# Altium footprint library Jump_254.PcbLib: 184 footprints (part 11 of 12)
Each footprint in its own frame and in the unit in brackets; x right, y up, seen from the top. Pads: shape width x height; smd on the part's side, far side on the other; paste and mask are expansions set on the pad; w line width, h text height; cw(c..) or ccw(c..) is an arc to the next point about the centre after c.
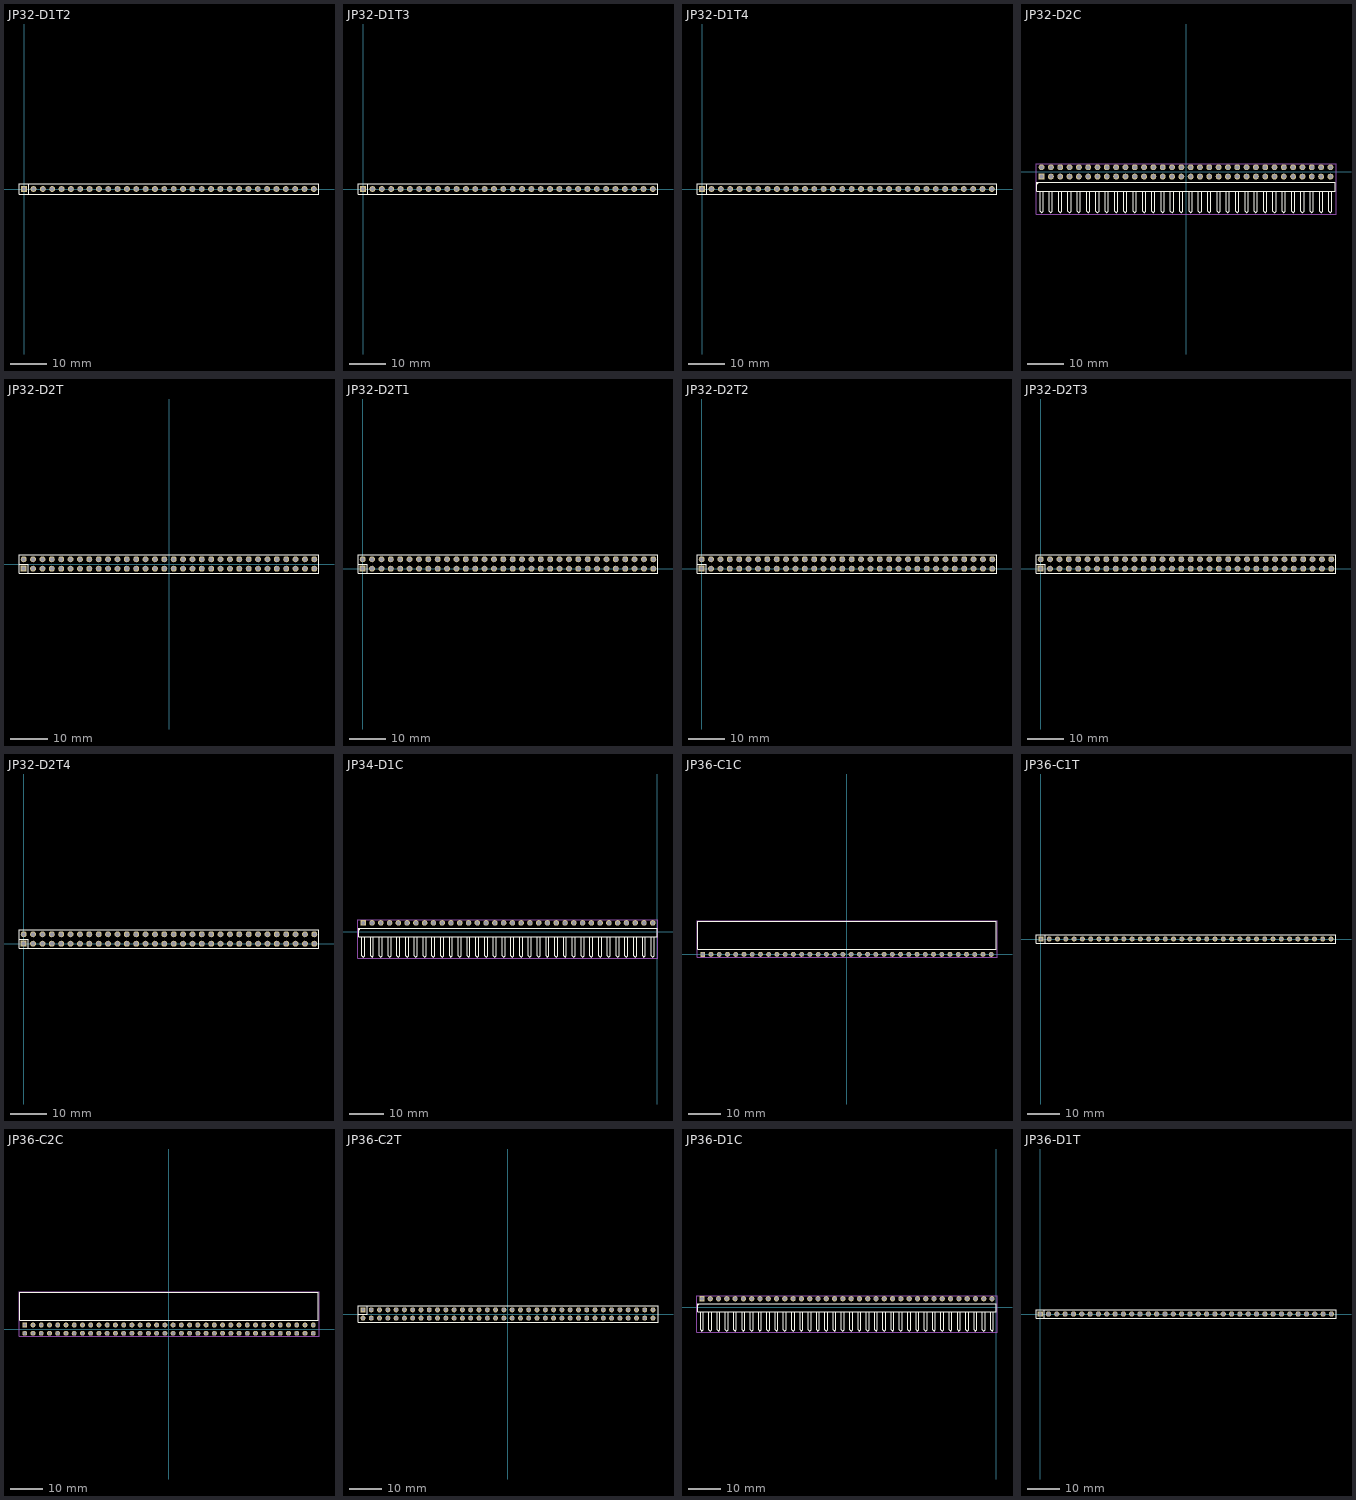
[diagram p10: the footprints below, top view; thin cyan lines are the x and y axes]

## JP32-D1T2 [mm] "32 pins, 1 row, gold plating"
height 21.24
pads (32):
  rect 1.6x1.6 hole 1.1: 1(0,0)
  round 1.6 hole 1.1: 2(2.54,0) 3(5.08,0) 4(7.62,0) 5(10.16,0) 6(12.7,0) 7(15.24,0) 8(17.78,0) 9(20.32,0) 10(22.86,0) 11(25.4,0) 12(27.94,0) 13(30.48,0) 14(33.02,0) 15(35.56,0) 16(38.1,0) 17(40.64,0) 18(43.18,0) 19(45.72,0) 20(48.26,0) 21(50.8,0) 22(53.34,0) 23(55.88,0) 24(58.42,0) 25(60.96,0) 26(63.5,0) 27(66.04,0) 28(68.58,0) 29(71.12,0) 30(73.66,0) 31(76.2,0) 32(78.74,0)
Top Overlay:
  lines w0.2: 1.27,-1.4 1.27,1.4 ; -1.4,-1.4 80.14,-1.4 80.14,1.4 -1.4,1.4 -1.4,-1.4
3D body "61303218421.stp": height 21.23, standoff -3.01, extent -1.27,-1.27 80.01,1.27

## JP32-D1T3 [mm] "32 pins, 1 row, gold plating"
height 33.48
pads (32):
  rect 1.6x1.6 hole 1.1: 1(0,0)
  round 1.6 hole 1.1: 2(2.54,0) 3(5.08,0) 4(7.62,0) 5(10.16,0) 6(12.7,0) 7(15.24,0) 8(17.78,0) 9(20.32,0) 10(22.86,0) 11(25.4,0) 12(27.94,0) 13(30.48,0) 14(33.02,0) 15(35.56,0) 16(38.1,0) 17(40.64,0) 18(43.18,0) 19(45.72,0) 20(48.26,0) 21(50.8,0) 22(53.34,0) 23(55.88,0) 24(58.42,0) 25(60.96,0) 26(63.5,0) 27(66.04,0) 28(68.58,0) 29(71.12,0) 30(73.66,0) 31(76.2,0) 32(78.74,0)
Top Overlay:
  lines w0.2: 1.27,-1.4 1.27,1.4 ; -1.4,-1.4 80.14,-1.4 80.14,1.4 -1.4,1.4 -1.4,-1.4
3D body "61303211321.stp": height 33.48, standoff -3, extent -1.27,-1.27 80.01,1.27

## JP32-D1T4 [mm] "32 pins, 1 row, gold plating"
height 36.48
pads (32):
  rect 1.6x1.6 hole 1.1: 1(0,0)
  round 1.6 hole 1.1: 2(2.54,0) 3(5.08,0) 4(7.62,0) 5(10.16,0) 6(12.7,0) 7(15.24,0) 8(17.78,0) 9(20.32,0) 10(22.86,0) 11(25.4,0) 12(27.94,0) 13(30.48,0) 14(33.02,0) 15(35.56,0) 16(38.1,0) 17(40.64,0) 18(43.18,0) 19(45.72,0) 20(48.26,0) 21(50.8,0) 22(53.34,0) 23(55.88,0) 24(58.42,0) 25(60.96,0) 26(63.5,0) 27(66.04,0) 28(68.58,0) 29(71.12,0) 30(73.66,0) 31(76.2,0) 32(78.74,0)
Top Overlay:
  lines w0.2: 1.27,-1.4 1.27,1.4 ; -1.4,-1.4 80.14,-1.4 80.14,1.4 -1.4,1.4 -1.4,-1.4
3D body "61303218521.stp": height 36.54, standoff -2.94, extent -1.27,-1.27 80.01,1.27

## JP32-D2C [mm] "64 pins, dual row, right angled, gold plating"
height 5.08
pads (64):
  rect 1.6x1.6 hole 1.1: 1(-39.37,-1.27)
  round 1.6 hole 1.1: 2(-36.83,-1.27) 3(-34.29,-1.27) 4(-31.75,-1.27) 5(-29.21,-1.27) 6(-26.67,-1.27) 7(-24.13,-1.27) 8(-21.59,-1.27) 9(-19.05,-1.27) 10(-16.51,-1.27) 11(-13.97,-1.27) 12(-11.43,-1.27) 13(-8.89,-1.27) 14(-6.35,-1.27) 15(-3.81,-1.27) 16(-1.27,-1.27) 17(1.27,-1.27) 18(3.81,-1.27) 19(6.35,-1.27) 20(8.89,-1.27) 21(11.43,-1.27) 22(13.97,-1.27) 23(16.51,-1.27) 24(19.05,-1.27) 25(21.59,-1.27) 26(24.13,-1.27) 27(26.67,-1.27) 28(29.21,-1.27) 29(31.75,-1.27) 30(34.29,-1.27) 31(36.83,-1.27) 32(39.37,-1.27) 33(39.37,1.27) 34(36.83,1.27) 35(34.29,1.27) 36(31.75,1.27) 37(29.21,1.27) 38(26.67,1.27) 39(24.13,1.27) 40(21.59,1.27) 41(19.05,1.27) 42(16.51,1.27) 43(13.97,1.27) 44(11.43,1.27) 45(8.89,1.27) 46(6.35,1.27) 47(3.81,1.27) 48(1.27,1.27) 49(-1.27,1.27) 50(-3.81,1.27) 51(-6.35,1.27) 52(-8.89,1.27) 53(-11.43,1.27) 54(-13.97,1.27) 55(-16.51,1.27) 56(-19.05,1.27) 57(-21.59,1.27) 58(-24.13,1.27) 59(-26.67,1.27) 60(-29.21,1.27) 61(-31.75,1.27) 62(-34.29,1.27) 63(-36.83,1.27) 64(-39.37,1.27)
Top Overlay:
  lines w0.2: -40.598,-3.236 -40.174,-2.812 ; -39.793,-5.335 -39.793,-10.729 -39.37,-11.152 -38.947,-10.729 -38.947,-5.31 ; -37.253,-5.335 -37.253,-10.729 -36.83,-11.152 -36.407,-10.729 -36.407,-5.335 ; -34.713,-5.335 -34.713,-10.729 -34.29,-11.152 -33.867,-10.729 -33.867,-5.31 ; -32.173,-5.335 -32.173,-10.729 -31.75,-11.152 -31.327,-10.729 -31.327,-5.335 ; -29.633,-5.335 -29.633,-10.729 -29.21,-11.152 -28.787,-10.729 -28.787,-5.31 ; -27.093,-5.335 -27.093,-10.729 -26.67,-11.152 -26.247,-10.729 -26.247,-5.335 ; -24.553,-5.335 -24.553,-10.729 -24.13,-11.152 -23.707,-10.729 -23.707,-5.31 ; -22.013,-5.335 -22.013,-10.729 -21.59,-11.152 -21.167,-10.729 -21.167,-5.335 ; -19.473,-5.335 -19.473,-10.729 -19.05,-11.152 -18.627,-10.729 -18.627,-5.31 ; -16.933,-5.335 -16.933,-10.729 -16.51,-11.152 -16.087,-10.729 -16.087,-5.335 ; -14.393,-5.335 -14.393,-10.729 -13.97,-11.152 -13.547,-10.729 -13.547,-5.31 ; -11.853,-5.335 -11.853,-10.729 -11.43,-11.152 -11.007,-10.729 -11.007,-5.335 ; -9.313,-5.335 -9.313,-10.729 -8.89,-11.152 -8.467,-10.729 -8.467,-5.31 ; -6.773,-5.335 -6.773,-10.729 -6.35,-11.152 -5.927,-10.729 -5.927,-5.335 ; -4.233,-5.335 -4.233,-10.729 -3.81,-11.152 -3.387,-10.729 -3.387,-5.31 ; -1.693,-5.335 -1.693,-10.729 -1.27,-11.152 -0.847,-10.729 -0.847,-5.335 ; 0.847,-5.335 0.847,-10.729 1.27,-11.152 1.693,-10.729 1.693,-5.31 ; 3.387,-5.335 3.387,-10.729 3.81,-11.152 4.233,-10.729 4.233,-5.335 ; 5.927,-5.335 5.927,-10.729 6.35,-11.152 6.773,-10.729 6.773,-5.31 ; 8.467,-5.335 8.467,-10.729 8.89,-11.152 9.313,-10.729 9.313,-5.335 ; 11.007,-5.335 11.007,-10.729 11.43,-11.152 11.853,-10.729 11.853,-5.31 ; 13.547,-5.335 13.547,-10.729 13.97,-11.152 14.393,-10.729 14.393,-5.335 ; 16.087,-5.335 16.087,-10.729 16.51,-11.152 16.933,-10.729 16.933,-5.31 ; 18.627,-5.335 18.627,-10.729 19.05,-11.152 19.473,-10.729 19.473,-5.335 ; 21.167,-5.335 21.167,-10.729 21.59,-11.152 22.013,-10.729 22.013,-5.31 ; 23.707,-5.335 23.707,-10.729 24.13,-11.152 24.553,-10.729 24.553,-5.335 ; 26.247,-5.335 26.247,-10.729 26.67,-11.152 27.093,-10.729 27.093,-5.31 ; 28.787,-5.335 28.787,-10.729 29.21,-11.152 29.633,-10.729 29.633,-5.335 ; 31.327,-5.335 31.327,-10.729 31.75,-11.152 32.173,-10.729 32.173,-5.31 ; 33.867,-5.335 33.867,-10.729 34.29,-11.152 34.713,-10.729 34.713,-5.335 ; 36.407,-5.335 36.407,-10.729 36.83,-11.152 37.253,-10.729 37.253,-5.31 ; 38.947,-5.335 38.947,-10.729 39.37,-11.152 39.793,-10.729 39.793,-5.335 ; -40.64,-5.31 -40.64,-2.77 40.64,-2.77 40.64,-5.31 -40.64,-5.31
Mechanical 15:
  lines w0.1: -40.89,-11.56 40.89,-11.56 40.89,2.27 -40.89,2.27 -40.89,-11.56
3D body "61306421021.stp": height 5.09, standoff -2.99, extent -40.64,-11.334 40.64,1.566

## JP32-D2T [mm] "64 pins, dual pin, straight, gold plating"
height 8.54
pads (64):
  rect 1.6x1.6 hole 1.1: 1(-39.37,-1.27)
  round 1.6 hole 1.1: 2(-36.83,-1.27) 3(-34.29,-1.27) 4(-31.75,-1.27) 5(-29.21,-1.27) 6(-26.67,-1.27) 7(-24.13,-1.27) 8(-21.59,-1.27) 9(-19.05,-1.27) 10(-16.51,-1.27) 11(-13.97,-1.27) 12(-11.43,-1.27) 13(-8.89,-1.27) 14(-6.35,-1.27) 15(-3.81,-1.27) 16(-1.27,-1.27) 17(1.27,-1.27) 18(3.81,-1.27) 19(6.35,-1.27) 20(8.89,-1.27) 21(11.43,-1.27) 22(13.97,-1.27) 23(16.51,-1.27) 24(19.05,-1.27) 25(21.59,-1.27) 26(24.13,-1.27) 27(26.67,-1.27) 28(29.21,-1.27) 29(31.75,-1.27) 30(34.29,-1.27) 31(36.83,-1.27) 32(39.37,-1.27) 33(39.37,1.27) 34(36.83,1.27) 35(34.29,1.27) 36(31.75,1.27) 37(29.21,1.27) 38(26.67,1.27) 39(24.13,1.27) 40(21.59,1.27) 41(19.05,1.27) 42(16.51,1.27) 43(13.97,1.27) 44(11.43,1.27) 45(8.89,1.27) 46(6.35,1.27) 47(3.81,1.27) 48(1.27,1.27) 49(-1.27,1.27) 50(-3.81,1.27) 51(-6.35,1.27) 52(-8.89,1.27) 53(-11.43,1.27) 54(-13.97,1.27) 55(-16.51,1.27) 56(-19.05,1.27) 57(-21.59,1.27) 58(-24.13,1.27) 59(-26.67,1.27) 60(-29.21,1.27) 61(-31.75,1.27) 62(-34.29,1.27) 63(-36.83,1.27) 64(-39.37,1.27)
Top Overlay:
  lines w0.2: -40.64,0 -38.1,0 -38.1,-2.54 ; -40.64,-2.54 40.64,-2.54 40.64,2.54 -35.56,2.54 -40.64,2.54 -40.64,-2.54
3D body "61306421121.stp": height 8.55, standoff -2.99, extent -40.64,-2.54 40.64,2.54

## JP32-D2T1 [mm] "64 pins, dual row, gold plating"
height 18.24
pads (64):
  rect 1.6x1.6 hole 1.1: 1(0,0)
  round 1.6 hole 1.1: 2(2.54,0) 3(5.08,0) 4(7.62,0) 5(10.16,0) 6(12.7,0) 7(15.24,0) 8(17.78,0) 9(20.32,0) 10(22.86,0) 11(25.4,0) 12(27.94,0) 13(30.48,0) 14(33.02,0) 15(35.56,0) 16(38.1,0) 17(40.64,0) 18(43.18,0) 19(45.72,0) 20(48.26,0) 21(50.8,0) 22(53.34,0) 23(55.88,0) 24(58.42,0) 25(60.96,0) 26(63.5,0) 27(66.04,0) 28(68.58,0) 29(71.12,0) 30(73.66,0) 31(76.2,0) 32(78.74,0) 33(78.74,2.54) 34(76.2,2.54) 35(73.66,2.54) 36(71.12,2.54) 37(68.58,2.54) 38(66.04,2.54) 39(63.5,2.54) 40(60.96,2.54) 41(58.42,2.54) 42(55.88,2.54) 43(53.34,2.54) 44(50.8,2.54) 45(48.26,2.54) 46(45.72,2.54) 47(43.18,2.54) 48(40.64,2.54) 49(38.1,2.54) 50(35.56,2.54) 51(33.02,2.54) 52(30.48,2.54) 53(27.94,2.54) 54(25.4,2.54) 55(22.86,2.54) 56(20.32,2.54) 57(17.78,2.54) 58(15.24,2.54) 59(12.7,2.54) 60(10.16,2.54) 61(7.62,2.54) 62(5.08,2.54) 63(2.54,2.54) 64(0,2.54)
Top Overlay:
  lines w0.2: -1.27,1.27 1.27,1.27 1.27,-1.27 ; -1.27,-1.27 80.01,-1.27 80.01,3.81 3.81,3.81 -1.27,3.81 -1.27,-1.27
3D body "61306421221.stp": height 18.25, standoff -2.99, extent -1.27,-1.27 80.01,3.81

## JP32-D2T2 [mm] "64 pins, dual row, gold plating"
height 21.24
pads (64):
  rect 1.6x1.6 hole 1.1: 1(0,0)
  round 1.6 hole 1.1: 2(2.54,0) 3(5.08,0) 4(7.62,0) 5(10.16,0) 6(12.7,0) 7(15.24,0) 8(17.78,0) 9(20.32,0) 10(22.86,0) 11(25.4,0) 12(27.94,0) 13(30.48,0) 14(33.02,0) 15(35.56,0) 16(38.1,0) 17(40.64,0) 18(43.18,0) 19(45.72,0) 20(48.26,0) 21(50.8,0) 22(53.34,0) 23(55.88,0) 24(58.42,0) 25(60.96,0) 26(63.5,0) 27(66.04,0) 28(68.58,0) 29(71.12,0) 30(73.66,0) 31(76.2,0) 32(78.74,0) 33(78.74,2.54) 34(76.2,2.54) 35(73.66,2.54) 36(71.12,2.54) 37(68.58,2.54) 38(66.04,2.54) 39(63.5,2.54) 40(60.96,2.54) 41(58.42,2.54) 42(55.88,2.54) 43(53.34,2.54) 44(50.8,2.54) 45(48.26,2.54) 46(45.72,2.54) 47(43.18,2.54) 48(40.64,2.54) 49(38.1,2.54) 50(35.56,2.54) 51(33.02,2.54) 52(30.48,2.54) 53(27.94,2.54) 54(25.4,2.54) 55(22.86,2.54) 56(20.32,2.54) 57(17.78,2.54) 58(15.24,2.54) 59(12.7,2.54) 60(10.16,2.54) 61(7.62,2.54) 62(5.08,2.54) 63(2.54,2.54) 64(0,2.54)
Top Overlay:
  lines w0.2: -1.27,1.27 1.27,1.27 1.27,-1.27 ; -1.27,-1.27 -1.27,3.81 3.81,3.81 80.01,3.81 80.01,-1.27 -1.27,-1.27
3D body "61306428421.stp": height 21.25, standoff -2.99, extent -1.27,-1.27 80.01,3.81

## JP32-D2T3 [mm] "64 pins, dual row, gold plating"
height 33.48
pads (64):
  rect 1.6x1.6 hole 1.1: 1(0,0)
  round 1.6 hole 1.1: 2(2.54,0) 3(5.08,0) 4(7.62,0) 5(10.16,0) 6(12.7,0) 7(15.24,0) 8(17.78,0) 9(20.32,0) 10(22.86,0) 11(25.4,0) 12(27.94,0) 13(30.48,0) 14(33.02,0) 15(35.56,0) 16(38.1,0) 17(40.64,0) 18(43.18,0) 19(45.72,0) 20(48.26,0) 21(50.8,0) 22(53.34,0) 23(55.88,0) 24(58.42,0) 25(60.96,0) 26(63.5,0) 27(66.04,0) 28(68.58,0) 29(71.12,0) 30(73.66,0) 31(76.2,0) 32(78.74,0) 33(78.74,2.54) 34(76.2,2.54) 35(73.66,2.54) 36(71.12,2.54) 37(68.58,2.54) 38(66.04,2.54) 39(63.5,2.54) 40(60.96,2.54) 41(58.42,2.54) 42(55.88,2.54) 43(53.34,2.54) 44(50.8,2.54) 45(48.26,2.54) 46(45.72,2.54) 47(43.18,2.54) 48(40.64,2.54) 49(38.1,2.54) 50(35.56,2.54) 51(33.02,2.54) 52(30.48,2.54) 53(27.94,2.54) 54(25.4,2.54) 55(22.86,2.54) 56(20.32,2.54) 57(17.78,2.54) 58(15.24,2.54) 59(12.7,2.54) 60(10.16,2.54) 61(7.62,2.54) 62(5.08,2.54) 63(2.54,2.54) 64(0,2.54)
Top Overlay:
  lines w0.2: -1.27,1.27 1.27,1.27 1.27,-1.27 ; -1.27,-1.27 80.01,-1.27 80.01,3.81 3.81,3.81 -1.27,3.81 -1.27,-1.27
3D body "61306421321.stp": height 33.49, standoff -2.99, extent -1.27,-1.27 80.01,3.81

## JP32-D2T4 [mm] "64 pins, dual row, gold plating"
height 36.48
pads (64):
  rect 1.6x1.6 hole 1.1: 1(0,0)
  round 1.6 hole 1.1: 2(2.54,0) 3(5.08,0) 4(7.62,0) 5(10.16,0) 6(12.7,0) 7(15.24,0) 8(17.78,0) 9(20.32,0) 10(22.86,0) 11(25.4,0) 12(27.94,0) 13(30.48,0) 14(33.02,0) 15(35.56,0) 16(38.1,0) 17(40.64,0) 18(43.18,0) 19(45.72,0) 20(48.26,0) 21(50.8,0) 22(53.34,0) 23(55.88,0) 24(58.42,0) 25(60.96,0) 26(63.5,0) 27(66.04,0) 28(68.58,0) 29(71.12,0) 30(73.66,0) 31(76.2,0) 32(78.74,0) 33(78.74,2.54) 34(76.2,2.54) 35(73.66,2.54) 36(71.12,2.54) 37(68.58,2.54) 38(66.04,2.54) 39(63.5,2.54) 40(60.96,2.54) 41(58.42,2.54) 42(55.88,2.54) 43(53.34,2.54) 44(50.8,2.54) 45(48.26,2.54) 46(45.72,2.54) 47(43.18,2.54) 48(40.64,2.54) 49(38.1,2.54) 50(35.56,2.54) 51(33.02,2.54) 52(30.48,2.54) 53(27.94,2.54) 54(25.4,2.54) 55(22.86,2.54) 56(20.32,2.54) 57(17.78,2.54) 58(15.24,2.54) 59(12.7,2.54) 60(10.16,2.54) 61(7.62,2.54) 62(5.08,2.54) 63(2.54,2.54) 64(0,2.54)
Top Overlay:
  lines w0.2: -1.27,1.27 1.27,1.27 1.27,-1.27 ; -1.27,-1.27 -1.27,3.81 3.81,3.81 80.01,3.81 80.01,-1.27 -1.27,-1.27
3D body "61306428521.stp": height 36.49, standoff -2.99, extent -1.27,-1.27 80.01,3.81

## JP34-D1C [mm] "34 pins, 1 row, right angled, gold plating"
height 2.54
pads (34):
  rect 1.6x1.6 hole 1.1: 1(-85.09,2.54)
  round 1.6 hole 1.1: 2(-82.55,2.54) 3(-80.01,2.54) 4(-77.47,2.54) 5(-74.93,2.54) 6(-72.39,2.54) 7(-69.85,2.54) 8(-67.31,2.54) 9(-64.77,2.54) 10(-62.23,2.54) 11(-59.69,2.54) 12(-57.15,2.54) 13(-54.61,2.54) 14(-52.07,2.54) 15(-49.53,2.54) 16(-46.99,2.54) 17(-44.45,2.54) 18(-41.91,2.54) 19(-39.37,2.54) 20(-36.83,2.54) 21(-34.29,2.54) 22(-31.75,2.54) 23(-29.21,2.54) 24(-26.67,2.54) 25(-24.13,2.54) 26(-21.59,2.54) 27(-19.05,2.54) 28(-16.51,2.54) 29(-13.97,2.54) 30(-11.43,2.54) 31(-8.89,2.54) 32(-6.35,2.54) 33(-3.81,2.54) 34(-1.27,2.54)
Top Overlay:
  lines w0.2: -86.318,0.574 -85.894,0.998 ; -85.513,-1.525 -85.513,-6.919 -85.09,-7.342 -84.667,-6.919 -84.667,-1.5 ; -82.973,-1.525 -82.973,-6.919 -82.55,-7.342 -82.127,-6.919 -82.127,-1.525 ; -80.433,-1.525 -80.433,-6.919 -80.01,-7.342 -79.587,-6.919 -79.587,-1.5 ; -77.893,-1.525 -77.893,-6.919 -77.47,-7.342 -77.047,-6.919 -77.047,-1.525 ; -75.353,-1.525 -75.353,-6.919 -74.93,-7.342 -74.507,-6.919 -74.507,-1.5 ; -72.813,-1.525 -72.813,-6.919 -72.39,-7.342 -71.967,-6.919 -71.967,-1.525 ; -70.273,-1.525 -70.273,-6.919 -69.85,-7.342 -69.427,-6.919 -69.427,-1.5 ; -67.733,-1.525 -67.733,-6.919 -67.31,-7.342 -66.887,-6.919 -66.887,-1.525 ; -65.193,-1.525 -65.193,-6.919 -64.77,-7.342 -64.347,-6.919 -64.347,-1.5 ; -62.653,-1.525 -62.653,-6.919 -62.23,-7.342 -61.807,-6.919 -61.807,-1.525 ; -60.113,-1.525 -60.113,-6.919 -59.69,-7.342 -59.267,-6.919 -59.267,-1.5 ; -57.573,-1.525 -57.573,-6.919 -57.15,-7.342 -56.727,-6.919 -56.727,-1.525 ; -55.033,-1.525 -55.033,-6.919 -54.61,-7.342 -54.187,-6.919 -54.187,-1.5 ; -52.493,-1.525 -52.493,-6.919 -52.07,-7.342 -51.647,-6.919 -51.647,-1.525 ; -49.953,-1.525 -49.953,-6.919 -49.53,-7.342 -49.107,-6.919 -49.107,-1.5 ; -47.413,-1.525 -47.413,-6.919 -46.99,-7.342 -46.567,-6.919 -46.567,-1.525 ; -44.873,-1.525 -44.873,-6.919 -44.45,-7.342 -44.027,-6.919 -44.027,-1.5 ; -42.333,-1.525 -42.333,-6.919 -41.91,-7.342 -41.487,-6.919 -41.487,-1.525 ; -39.793,-1.525 -39.793,-6.919 -39.37,-7.342 -38.947,-6.919 -38.947,-1.5 ; -37.253,-1.525 -37.253,-6.919 -36.83,-7.342 -36.407,-6.919 -36.407,-1.525 ; -34.713,-1.525 -34.713,-6.919 -34.29,-7.342 -33.867,-6.919 -33.867,-1.5 ; -32.173,-1.525 -32.173,-6.919 -31.75,-7.342 -31.327,-6.919 -31.327,-1.525 ; -29.633,-1.525 -29.633,-6.919 -29.21,-7.342 -28.787,-6.919 -28.787,-1.5 ; -27.093,-1.525 -27.093,-6.919 -26.67,-7.342 -26.247,-6.919 -26.247,-1.525 ; -24.553,-1.525 -24.553,-6.919 -24.13,-7.342 -23.707,-6.919 -23.707,-1.5 ; -22.013,-1.525 -22.013,-6.919 -21.59,-7.342 -21.167,-6.919 -21.167,-1.525 ; -19.473,-1.525 -19.473,-6.919 -19.05,-7.342 -18.627,-6.919 -18.627,-1.5 ; -16.933,-1.525 -16.933,-6.919 -16.51,-7.342 -16.087,-6.919 -16.087,-1.525 ; -14.393,-1.525 -14.393,-6.919 -13.97,-7.342 -13.547,-6.919 -13.547,-1.5 ; -11.853,-1.525 -11.853,-6.919 -11.43,-7.342 -11.007,-6.919 -11.007,-1.525 ; -9.313,-1.525 -9.313,-6.919 -8.89,-7.342 -8.467,-6.919 -8.467,-1.5 ; -6.773,-1.525 -6.773,-6.919 -6.35,-7.342 -5.927,-6.919 -5.927,-1.525 ; -4.233,-1.525 -4.233,-6.919 -3.81,-7.342 -3.387,-6.919 -3.387,-1.5 ; -1.693,-1.525 -1.693,-6.919 -1.27,-7.342 -0.847,-6.919 -0.847,-1.525 ; 0,-1.5 -86.36,-1.5 -86.36,1.04 0,1.04 ; 0,-1.5 0,1.04 ; 0,-1.5 0,1.04
Mechanical 15:
  lines w0.1: -86.61,-7.75 0.25,-7.75 0.25,3.5 -86.61,3.5 -86.61,-7.75
3D body "61303411021.stp": height 2.55, standoff -2.99, extent -86.36,-7.524 0,2.836

## JP36-C1C [mm] "36p 1 row Right angle"
height 2.5
pads (36):
  rect 1.52x1.52 hole 1.02: 1(-44.45,0)
  round 1.52 hole 1.02: 2(-41.91,0) 3(-39.37,0) 4(-36.83,0) 5(-34.29,0) 6(-31.75,0) 7(-29.21,0) 8(-26.67,0) 9(-24.13,0) 10(-21.59,0) 11(-19.05,0) 12(-16.51,0) 13(-13.97,0) 14(-11.43,0) 15(-8.89,0) 16(-6.35,0) 17(-3.81,0) 18(-1.27,0) 19(1.27,0) 20(3.81,0) 21(6.35,0) 22(8.89,0) 23(11.43,0) 24(13.97,0) 25(16.51,0) 26(19.05,0) 27(21.59,0) 28(24.13,0) 29(26.67,0) 30(29.21,0) 31(31.75,0) 32(34.29,0) 33(36.83,0) 34(39.37,0) 35(41.91,0) 36(44.45,0)
Top Overlay:
  lines w0.2: -45.974,1.524 45.974,1.524 45.974,10.173 -45.974,10.173 -45.974,1.524
Mechanical 15:
  lines w0.1: -46.22,-0.96 46.224,-0.96 46.224,10.423 -46.22,10.423 -46.22,-0.96
3D body "613036143121.stp": height 2.51, standoff -3.08, extent -45.97,-0.208 45.97,10.092

## JP36-C1T [mm] "36 row, straight, gold plating"
height 8.5
pads (36):
  rect 1.52x1.52 hole 1.02: 1(0,0)
  round 1.52 hole 1.02: 2(2.54,0) 3(5.08,0) 4(7.62,0) 5(10.16,0) 6(12.7,0) 7(15.24,0) 8(17.78,0) 9(20.32,0) 10(22.86,0) 11(25.4,0) 12(27.94,0) 13(30.48,0) 14(33.02,0) 15(35.56,0) 16(38.1,0) 17(40.64,0) 18(43.18,0) 19(45.72,0) 20(48.26,0) 21(50.8,0) 22(53.34,0) 23(55.88,0) 24(58.42,0) 25(60.96,0) 26(63.5,0) 27(66.04,0) 28(68.58,0) 29(71.12,0) 30(73.66,0) 31(76.2,0) 32(78.74,0) 33(81.28,0) 34(83.82,0) 35(86.36,0) 36(88.9,0)
Top Overlay:
  lines w0.2: 1.27,-1.27 1.27,1.27 ; 37.465,1.27 37.677,1.27 ; -1.52,-1.27 -1.52,1.27 0.635,1.27 90.42,1.27 90.42,-1.27 -1.52,-1.27
3D body "61303611821.stp": height 8.51, standoff -3.09, extent -1.52,-1.25 90.42,1.25

## JP36-C2C [mm] "72p 2 rows Right angle"
height 5.08
pads (72):
  rect 1.52x1.52 hole 1.02: 1(-44.45,1.27)
  round 1.52 hole 1.02: 2(-41.91,1.27) 3(-39.37,1.27) 4(-36.83,1.27) 5(-34.29,1.27) 6(-31.75,1.27) 7(-29.21,1.27) 8(-26.67,1.27) 9(-24.13,1.27) 10(-21.59,1.27) 11(-19.05,1.27) 12(-16.51,1.27) 13(-13.97,1.27) 14(-11.43,1.27) 15(-8.89,1.27) 16(-6.35,1.27) 17(-3.81,1.27) 18(-1.27,1.27) 19(1.27,1.27) 20(3.81,1.27) 21(6.35,1.27) 22(8.89,1.27) 23(11.43,1.27) 24(13.97,1.27) 25(16.51,1.27) 26(19.05,1.27) 27(21.59,1.27) 28(24.13,1.27) 29(26.67,1.27) 30(29.21,1.27) 31(31.75,1.27) 32(34.29,1.27) 33(36.83,1.27) 34(39.37,1.27) 35(41.91,1.27) 36(44.45,1.27) 37(44.45,-1.27) 38(41.91,-1.27) 39(39.37,-1.27) 40(36.83,-1.27) 41(34.29,-1.27) 42(31.75,-1.27) 43(29.21,-1.27) 44(26.67,-1.27) 45(24.13,-1.27) 46(21.59,-1.27) 47(19.05,-1.27) 48(16.51,-1.27) 49(13.97,-1.27) 50(11.43,-1.27) 51(8.89,-1.27) 52(6.35,-1.27) 53(3.81,-1.27) 54(1.27,-1.27) 55(-1.27,-1.27) 56(-3.81,-1.27) 57(-6.35,-1.27) 58(-8.89,-1.27) 59(-11.43,-1.27) 60(-13.97,-1.27) 61(-16.51,-1.27) 62(-19.05,-1.27) 63(-21.59,-1.27) 64(-24.13,-1.27) 65(-26.67,-1.27) 66(-29.21,-1.27) 67(-31.75,-1.27) 68(-34.29,-1.27) 69(-36.83,-1.27) 70(-39.37,-1.27) 71(-41.91,-1.27) 72(-44.45,-1.27)
Top Overlay:
  lines w0.2: -45.974,2.794 -45.974,11.316 45.974,11.316 45.974,2.794 -45.974,2.794
Mechanical 15:
  lines w0.1: -46.22,-2.23 46.224,-2.23 46.224,11.566 -46.22,11.566 -46.22,-2.23
3D body "613072243121.stp": height 5.09, standoff -4.46, extent -45.97,-1.478 45.97,11.362

## JP36-C2T [mm] "72 pins, dual row, straight, gold plating"
height 8.5
pads (72):
  rect 1.52x1.52 hole 1.02: 1(-44.45,1.27)
  round 1.52 hole 1.02: 2(-41.91,1.27) 3(-39.37,1.27) 4(-36.83,1.27) 5(-34.29,1.27) 6(-31.75,1.27) 7(-29.21,1.27) 8(-26.67,1.27) 9(-24.13,1.27) 10(-21.59,1.27) 11(-19.05,1.27) 12(-16.51,1.27) 13(-13.97,1.27) 14(-11.43,1.27) 15(-8.89,1.27) 16(-6.35,1.27) 17(-3.81,1.27) 18(-1.27,1.27) 19(1.27,1.27) 20(3.81,1.27) 21(6.35,1.27) 22(8.89,1.27) 23(11.43,1.27) 24(13.97,1.27) 25(16.51,1.27) 26(19.05,1.27) 27(21.59,1.27) 28(24.13,1.27) 29(26.67,1.27) 30(29.21,1.27) 31(31.75,1.27) 32(34.29,1.27) 33(36.83,1.27) 34(39.37,1.27) 35(41.91,1.27) 36(44.45,1.27) 37(44.45,-1.27) 38(41.91,-1.27) 39(39.37,-1.27) 40(36.83,-1.27) 41(34.29,-1.27) 42(31.75,-1.27) 43(29.21,-1.27) 44(26.67,-1.27) 45(24.13,-1.27) 46(21.59,-1.27) 47(19.05,-1.27) 48(16.51,-1.27) 49(13.97,-1.27) 50(11.43,-1.27) 51(8.89,-1.27) 52(6.35,-1.27) 53(3.81,-1.27) 54(1.27,-1.27) 55(-1.27,-1.27) 56(-3.81,-1.27) 57(-6.35,-1.27) 58(-8.89,-1.27) 59(-11.43,-1.27) 60(-13.97,-1.27) 61(-16.51,-1.27) 62(-19.05,-1.27) 63(-21.59,-1.27) 64(-24.13,-1.27) 65(-26.67,-1.27) 66(-29.21,-1.27) 67(-31.75,-1.27) 68(-34.29,-1.27) 69(-36.83,-1.27) 70(-39.37,-1.27) 71(-41.91,-1.27) 72(-44.45,-1.27)
Top Overlay:
  lines w0.2: -45.97,0 -43.18,0 -43.18,2.54 ; -45.97,-2.54 45.97,-2.54 45.97,2.54 40.64,2.54 -45.97,2.54 -45.97,-2.54
3D body "61307221821.stp": height 8.51, standoff -3.09, extent -45.97,-2.54 45.97,2.54

## JP36-D1C [mm] "36 pins, 1 row, right angled, gold plating"
height 2.54
pads (36):
  rect 1.6x1.6 hole 1.1: 1(-90.17,2.54)
  round 1.6 hole 1.1: 2(-87.63,2.54) 3(-85.09,2.54) 4(-82.55,2.54) 5(-80.01,2.54) 6(-77.47,2.54) 7(-74.93,2.54) 8(-72.39,2.54) 9(-69.85,2.54) 10(-67.31,2.54) 11(-64.77,2.54) 12(-62.23,2.54) 13(-59.69,2.54) 14(-57.15,2.54) 15(-54.61,2.54) 16(-52.07,2.54) 17(-49.53,2.54) 18(-46.99,2.54) 19(-44.45,2.54) 20(-41.91,2.54) 21(-39.37,2.54) 22(-36.83,2.54) 23(-34.29,2.54) 24(-31.75,2.54) 25(-29.21,2.54) 26(-26.67,2.54) 27(-24.13,2.54) 28(-21.59,2.54) 29(-19.05,2.54) 30(-16.51,2.54) 31(-13.97,2.54) 32(-11.43,2.54) 33(-8.89,2.54) 34(-6.35,2.54) 35(-3.81,2.54) 36(-1.27,2.54)
Top Overlay:
  lines w0.2: -91.398,0.574 -90.974,0.998 ; -90.593,-1.525 -90.593,-6.919 -90.17,-7.342 -89.747,-6.919 -89.747,-1.5 ; -88.053,-1.525 -88.053,-6.919 -87.63,-7.342 -87.207,-6.919 -87.207,-1.525 ; -85.513,-1.525 -85.513,-6.919 -85.09,-7.342 -84.667,-6.919 -84.667,-1.5 ; -82.973,-1.525 -82.973,-6.919 -82.55,-7.342 -82.127,-6.919 -82.127,-1.525 ; -80.433,-1.525 -80.433,-6.919 -80.01,-7.342 -79.587,-6.919 -79.587,-1.5 ; -77.893,-1.525 -77.893,-6.919 -77.47,-7.342 -77.047,-6.919 -77.047,-1.525 ; -75.353,-1.525 -75.353,-6.919 -74.93,-7.342 -74.507,-6.919 -74.507,-1.5 ; -72.813,-1.525 -72.813,-6.919 -72.39,-7.342 -71.967,-6.919 -71.967,-1.525 ; -70.273,-1.525 -70.273,-6.919 -69.85,-7.342 -69.427,-6.919 -69.427,-1.5 ; -67.733,-1.525 -67.733,-6.919 -67.31,-7.342 -66.887,-6.919 -66.887,-1.525 ; -65.193,-1.525 -65.193,-6.919 -64.77,-7.342 -64.347,-6.919 -64.347,-1.5 ; -62.653,-1.525 -62.653,-6.919 -62.23,-7.342 -61.807,-6.919 -61.807,-1.525 ; -60.113,-1.525 -60.113,-6.919 -59.69,-7.342 -59.267,-6.919 -59.267,-1.5 ; -57.573,-1.525 -57.573,-6.919 -57.15,-7.342 -56.727,-6.919 -56.727,-1.525 ; -55.033,-1.525 -55.033,-6.919 -54.61,-7.342 -54.187,-6.919 -54.187,-1.5 ; -52.493,-1.525 -52.493,-6.919 -52.07,-7.342 -51.647,-6.919 -51.647,-1.525 ; -49.953,-1.525 -49.953,-6.919 -49.53,-7.342 -49.107,-6.919 -49.107,-1.5 ; -47.413,-1.525 -47.413,-6.919 -46.99,-7.342 -46.567,-6.919 -46.567,-1.525 ; -44.873,-1.525 -44.873,-6.919 -44.45,-7.342 -44.027,-6.919 -44.027,-1.5 ; -42.333,-1.525 -42.333,-6.919 -41.91,-7.342 -41.487,-6.919 -41.487,-1.525 ; -39.793,-1.525 -39.793,-6.919 -39.37,-7.342 -38.947,-6.919 -38.947,-1.5 ; -37.253,-1.525 -37.253,-6.919 -36.83,-7.342 -36.407,-6.919 -36.407,-1.525 ; -34.713,-1.525 -34.713,-6.919 -34.29,-7.342 -33.867,-6.919 -33.867,-1.5 ; -32.173,-1.525 -32.173,-6.919 -31.75,-7.342 -31.327,-6.919 -31.327,-1.525 ; -29.633,-1.525 -29.633,-6.919 -29.21,-7.342 -28.787,-6.919 -28.787,-1.5 ; -27.093,-1.525 -27.093,-6.919 -26.67,-7.342 -26.247,-6.919 -26.247,-1.525 ; -24.553,-1.525 -24.553,-6.919 -24.13,-7.342 -23.707,-6.919 -23.707,-1.5 ; -22.013,-1.525 -22.013,-6.919 -21.59,-7.342 -21.167,-6.919 -21.167,-1.525 ; -19.473,-1.525 -19.473,-6.919 -19.05,-7.342 -18.627,-6.919 -18.627,-1.5 ; -16.933,-1.525 -16.933,-6.919 -16.51,-7.342 -16.087,-6.919 -16.087,-1.525 ; -14.393,-1.525 -14.393,-6.919 -13.97,-7.342 -13.547,-6.919 -13.547,-1.5 ; -11.853,-1.525 -11.853,-6.919 -11.43,-7.342 -11.007,-6.919 -11.007,-1.525 ; -9.313,-1.525 -9.313,-6.919 -8.89,-7.342 -8.467,-6.919 -8.467,-1.5 ; -6.773,-1.525 -6.773,-6.919 -6.35,-7.342 -5.927,-6.919 -5.927,-1.525 ; -4.233,-1.525 -4.233,-6.919 -3.81,-7.342 -3.387,-6.919 -3.387,-1.5 ; -1.693,-1.525 -1.693,-6.919 -1.27,-7.342 -0.847,-6.919 -0.847,-1.525 ; -91.44,-1.5 -91.44,1.04 0,1.04 0,-1.5 -91.44,-1.5
Mechanical 15:
  lines w0.1: -91.69,-7.75 0.25,-7.75 0.25,3.5 -91.69,3.5 -91.69,-7.75
3D body "61303611021.stp": height 2.55, standoff -2.99, extent -91.44,-7.524 0,2.836

## JP36-D1T [mm] "36 pins, 1 row, straight, gold plating"
height 8.54
pads (36):
  rect 1.6x1.6 hole 1.1: 1(0,0)
  round 1.6 hole 1.1: 2(2.54,0) 3(5.08,0) 4(7.62,0) 5(10.16,0) 6(12.7,0) 7(15.24,0) 8(17.78,0) 9(20.32,0) 10(22.86,0) 11(25.4,0) 12(27.94,0) 13(30.48,0) 14(33.02,0) 15(35.56,0) 16(38.1,0) 17(40.64,0) 18(43.18,0) 19(45.72,0) 20(48.26,0) 21(50.8,0) 22(53.34,0) 23(55.88,0) 24(58.42,0) 25(60.96,0) 26(63.5,0) 27(66.04,0) 28(68.58,0) 29(71.12,0) 30(73.66,0) 31(76.2,0) 32(78.74,0) 33(81.28,0) 34(83.82,0) 35(86.36,0) 36(88.9,0)
Top Overlay:
  lines w0.2: 1.27,-1.27 1.27,1.27 ; 37.465,1.27 37.677,1.27 ; -1.27,-1.27 90.3,-1.27 90.3,1.27 0.635,1.27 -1.27,1.27 -1.27,-1.27
3D body "61303611121.stp": height 8.54, standoff -3, extent -1.27,-1.27 90.17,1.27